# EAGLE library part 5M1270ZT144 (library ic-Altera)
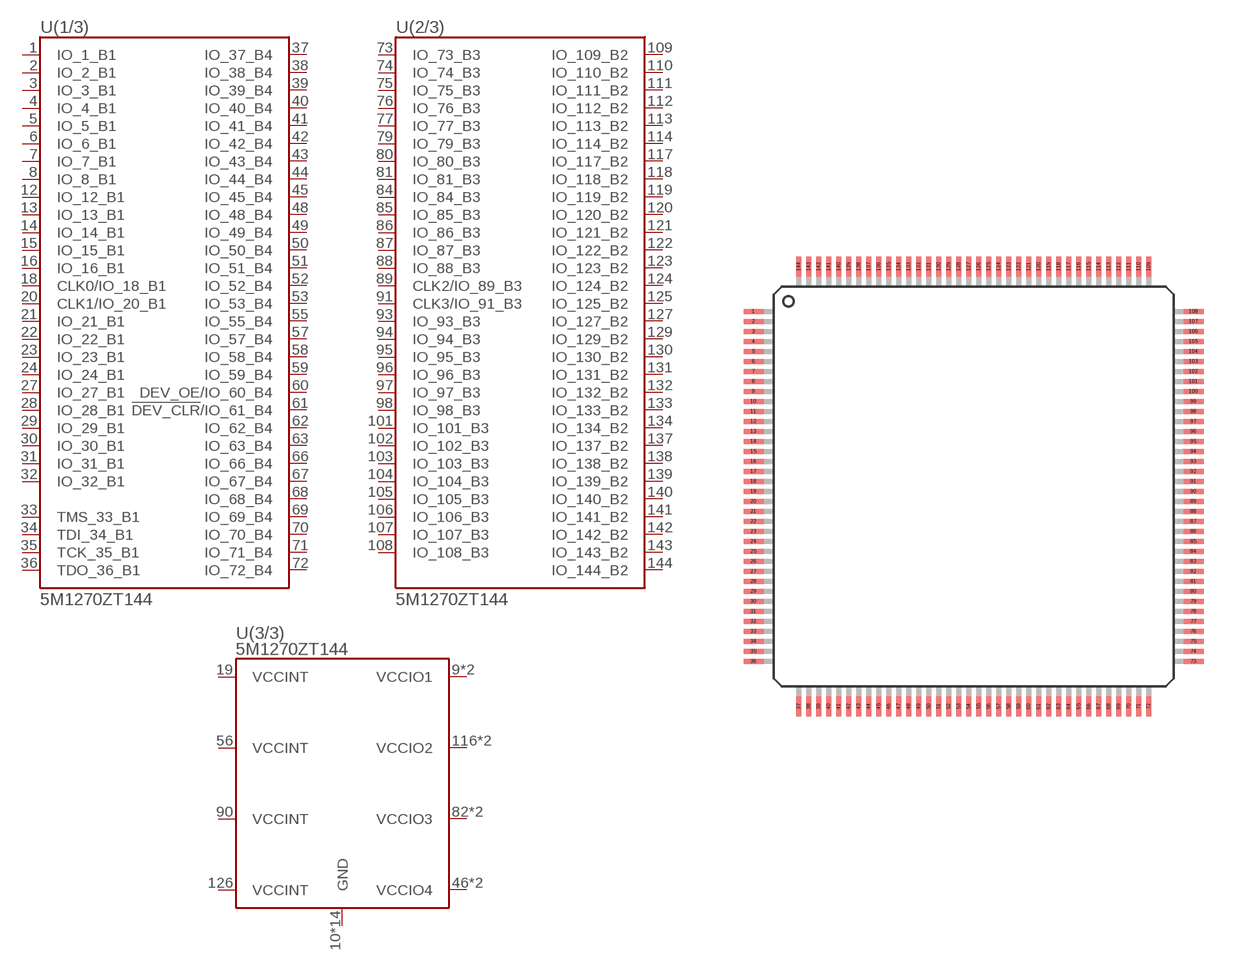
[diagram p9: symbol with the pads of QFP144-0.5; footprint QFP144-0.5]

Designator prefix U; gates (1/3)=5M1270ZT144_A (2/3)=5M1270ZT144_B (3/3)=5M1270ZT144_POWER

## 5M1270ZT144  [QFP144-0.5]
1  (1/3):IO_1_B1
2  (1/3):IO_2_B1
3  (1/3):IO_3_B1
4  (1/3):IO_4_B1
5  (1/3):IO_5_B1
6  (1/3):IO_6_B1
7  (1/3):IO_7_B1
8  (1/3):IO_8_B1
9  (3/3):VCCIO1
10  (3/3):GND
11  (3/3):GND
12  (1/3):IO_12_B1
13  (1/3):IO_13_B1
14  (1/3):IO_14_B1
15  (1/3):IO_15_B1
16  (1/3):IO_16_B1
17  (3/3):GND
18  (1/3):CLK0/IO_18_B1
19  (3/3):VCCINT
20  (1/3):CLK1/IO_20_B1
21  (1/3):IO_21_B1
22  (1/3):IO_22_B1
23  (1/3):IO_23_B1
24  (1/3):IO_24_B1
25  (3/3):VCCIO1
26  (3/3):GND
27  (1/3):IO_27_B1
28  (1/3):IO_28_B1
29  (1/3):IO_29_B1
30  (1/3):IO_30_B1
31  (1/3):IO_31_B1
32  (1/3):IO_32_B1
33  (1/3):TMS_33_B1
34  (1/3):TDI_34_B1
35  (1/3):TCK_35_B1
36  (1/3):TDO_36_B1
37  (1/3):IO_37_B4
38  (1/3):IO_38_B4
39  (1/3):IO_39_B4
40  (1/3):IO_40_B4
41  (1/3):IO_41_B4
42  (1/3):IO_42_B4
43  (1/3):IO_43_B4
44  (1/3):IO_44_B4
45  (1/3):IO_45_B4
46  (3/3):VCCIO4
47  (3/3):GND
48  (1/3):IO_48_B4
49  (1/3):IO_49_B4
50  (1/3):IO_50_B4
51  (1/3):IO_51_B4
52  (1/3):IO_52_B4
53  (1/3):IO_53_B4
54  (3/3):GND
55  (1/3):IO_55_B4
56  (3/3):VCCINT
57  (1/3):IO_57_B4
58  (1/3):IO_58_B4
59  (1/3):IO_59_B4
60  (1/3):DEV_OE/IO_60_B4
61  (1/3):!DEV_CLR!/IO_61_B4
62  (1/3):IO_62_B4
63  (1/3):IO_63_B4
64  (3/3):VCCIO4
65  (3/3):GND
66  (1/3):IO_66_B4
67  (1/3):IO_67_B4
68  (1/3):IO_68_B4
69  (1/3):IO_69_B4
70  (1/3):IO_70_B4
71  (1/3):IO_71_B4
72  (1/3):IO_72_B4
73  (2/3):IO_73_B3
74  (2/3):IO_74_B3
75  (2/3):IO_75_B3
76  (2/3):IO_76_B3
77  (2/3):IO_77_B3
78  (3/3):GND
79  (2/3):IO_79_B3
80  (2/3):IO_80_B3
81  (2/3):IO_81_B3
82  (3/3):VCCIO3
83  (3/3):GND
84  (2/3):IO_84_B3
85  (2/3):IO_85_B3
86  (2/3):IO_86_B3
87  (2/3):IO_87_B3
88  (2/3):IO_88_B3
89  (2/3):CLK2/IO_89_B3
90  (3/3):VCCINT
91  (2/3):CLK3/IO_91_B3
92  (3/3):GND
93  (2/3):IO_93_B3
94  (2/3):IO_94_B3
95  (2/3):IO_95_B3
96  (2/3):IO_96_B3
97  (2/3):IO_97_B3
98  (2/3):IO_98_B3
99  (3/3):GND
100  (3/3):VCCIO3
101  (2/3):IO_101_B3
102  (2/3):IO_102_B3
103  (2/3):IO_103_B3
104  (2/3):IO_104_B3
105  (2/3):IO_105_B3
106  (2/3):IO_106_B3
107  (2/3):IO_107_B3
108  (2/3):IO_108_B3
109  (2/3):IO_109_B2
110  (2/3):IO_110_B2
111  (2/3):IO_111_B2
112  (2/3):IO_112_B2
113  (2/3):IO_113_B2
114  (2/3):IO_114_B2
115  (3/3):GND
116  (3/3):VCCIO2
117  (2/3):IO_117_B2
118  (2/3):IO_118_B2
119  (2/3):IO_119_B2
120  (2/3):IO_120_B2
121  (2/3):IO_121_B2
122  (2/3):IO_122_B2
123  (2/3):IO_123_B2
124  (2/3):IO_124_B2
125  (2/3):IO_125_B2
126  (3/3):VCCINT
127  (2/3):IO_127_B2
128  (3/3):GND
129  (2/3):IO_129_B2
130  (2/3):IO_130_B2
131  (2/3):IO_131_B2
132  (2/3):IO_132_B2
133  (2/3):IO_133_B2
134  (2/3):IO_134_B2
135  (3/3):GND
136  (3/3):VCCIO2
137  (2/3):IO_137_B2
138  (2/3):IO_138_B2
139  (2/3):IO_139_B2
140  (2/3):IO_140_B2
141  (2/3):IO_141_B2
142  (2/3):IO_142_B2
143  (2/3):IO_143_B2
144  (2/3):IO_144_B2

## Footprint QFP144-0.5 (pad centres in mm)
smd 1 x 0.25: 1 -11,8.75; 2 -11,8.25; 3 -11,7.75; 4 -11,7.25; 5 -11,6.75; 6 -11,6.25; 7 -11,5.75; 8 -11,5.25; 9 -11,4.75; 10 -11,4.25; 11 -11,3.75; 12 -11,3.25; 13 -11,2.75; 14 -11,2.25; 15 -11,1.75; 16 -11,1.25; 17 -11,0.75; 18 -11,0.25; 19 -11,-0.25; 20 -11,-0.75; 21 -11,-1.25; 22 -11,-1.75; 23 -11,-2.25; 24 -11,-2.75; 25 -11,-3.25; 26 -11,-3.75; 27 -11,-4.25; 28 -11,-4.75; 29 -11,-5.25; 30 -11,-5.75; 31 -11,-6.25; 32 -11,-6.75; 33 -11,-7.25; 34 -11,-7.75; 35 -11,-8.25; 36 -11,-8.75; 73 11,-8.75; 74 11,-8.25; 75 11,-7.75; 76 11,-7.25; 77 11,-6.75; 78 11,-6.25; 79 11,-5.75; 80 11,-5.25; 81 11,-4.75; 82 11,-4.25; 83 11,-3.75; 84 11,-3.25; 85 11,-2.75; 86 11,-2.25; 87 11,-1.75; 88 11,-1.25; 89 11,-0.75; 90 11,-0.25; 91 11,0.25; 92 11,0.75; 93 11,1.25; 94 11,1.75; 95 11,2.25; 96 11,2.75; 97 11,3.25; 98 11,3.75; 99 11,4.25; 100 11,4.75; 101 11,5.25; 102 11,5.75; 103 11,6.25; 104 11,6.75; 105 11,7.25; 106 11,7.75; 107 11,8.25; 108 11,8.75
smd 0.25 x 1: 37 -8.75,-11; 38 -8.25,-11; 39 -7.75,-11; 40 -7.25,-11; 41 -6.75,-11; 42 -6.25,-11; 43 -5.75,-11; 44 -5.25,-11; 45 -4.75,-11; 46 -4.25,-11; 47 -3.75,-11; 48 -3.25,-11; 49 -2.75,-11; 50 -2.25,-11; 51 -1.75,-11; 52 -1.25,-11; 53 -0.75,-11; 54 -0.25,-11; 55 0.25,-11; 56 0.75,-11; 57 1.25,-11; 58 1.75,-11; 59 2.25,-11; 60 2.75,-11; 61 3.25,-11; 62 3.75,-11; 63 4.25,-11; 64 4.75,-11; 65 5.25,-11; 66 5.75,-11; 67 6.25,-11; 68 6.75,-11; 69 7.25,-11; 70 7.75,-11; 71 8.25,-11; 72 8.75,-11; 109 8.75,11; 110 8.25,11; 111 7.75,11; 112 7.25,11; 113 6.75,11; 114 6.25,11; 115 5.75,11; 116 5.25,11; 117 4.75,11; 118 4.25,11; 119 3.75,11; 120 3.25,11; 121 2.75,11; 122 2.25,11; 123 1.75,11; 124 1.25,11; 125 0.75,11; 126 0.25,11; 127 -0.25,11; 128 -0.75,11; 129 -1.25,11; 130 -1.75,11; 131 -2.25,11; 132 -2.75,11; 133 -3.25,11; 134 -3.75,11; 135 -4.25,11; 136 -4.75,11; 137 -5.25,11; 138 -5.75,11; 139 -6.25,11; 140 -6.75,11; 141 -7.25,11; 142 -7.75,11; 143 -8.25,11; 144 -8.75,11